# Altium schematic symbol library RF_AM_FM.SchLib: 13 symbols
Pins are listed as number, name and electrical type; pins without a type are passive.

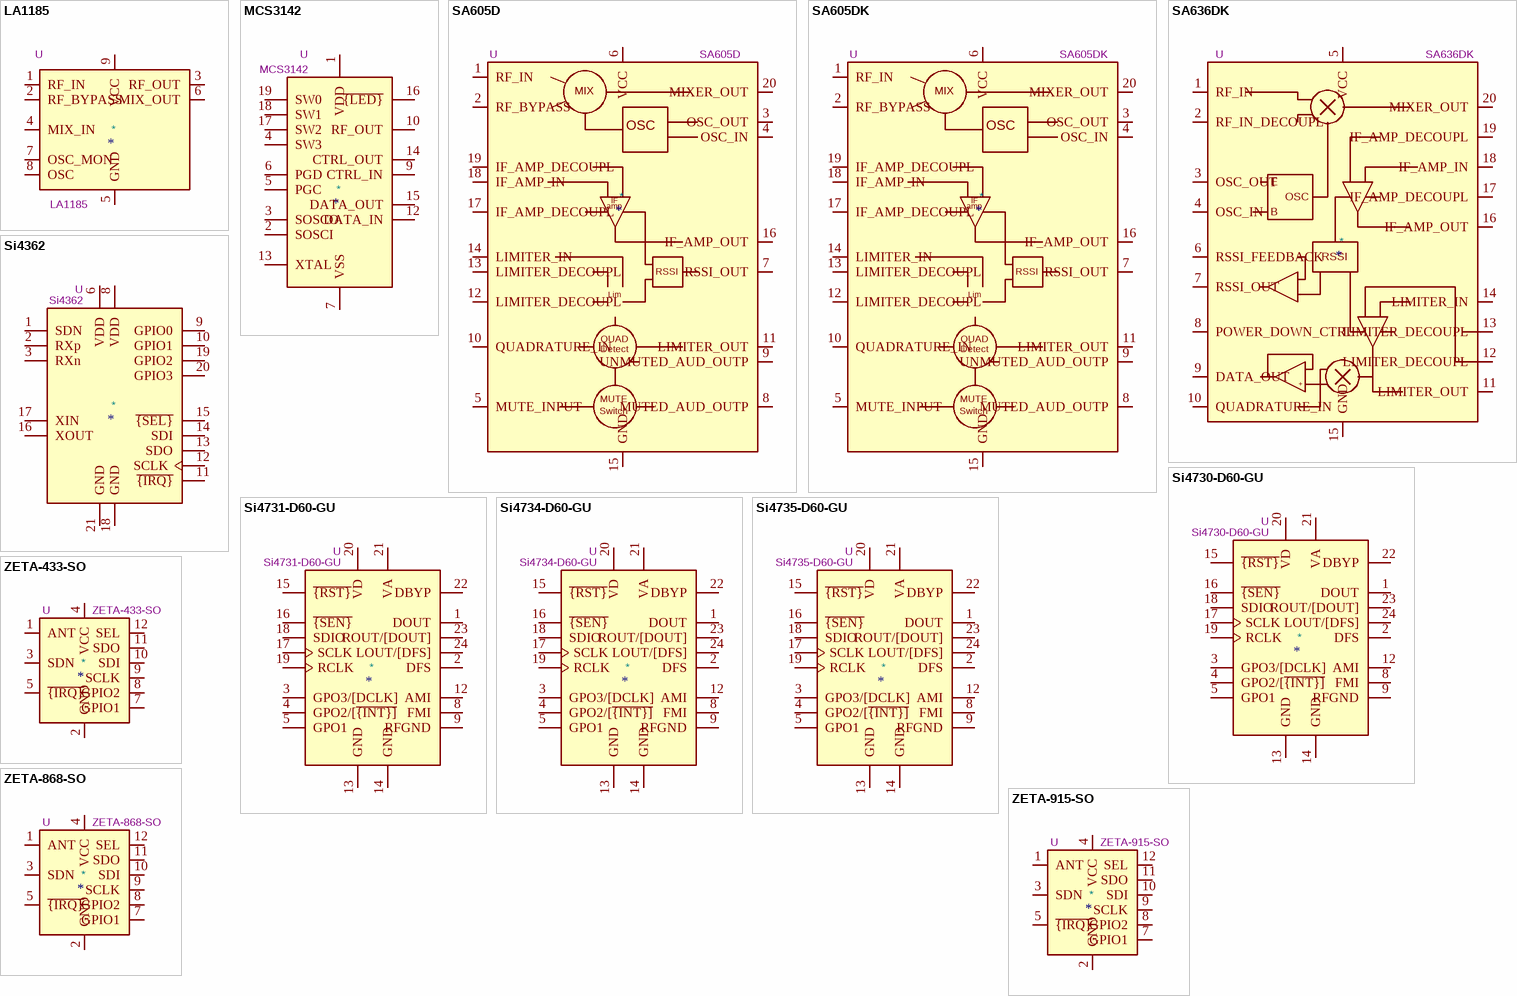
[diagram p0: symbols LA1185 to ZETA-915-SO]

## LA1185
designator *  value LA1185  Reference: U
ki_keywords: FM mixer receiver amplifier; ki_description: FM receiver front-end IC for radio-cassette recorder, music center applications, SIP-9; ki_fp_filters: SIP*22.3x3mm*P2.54mm*; Footprint: Package_SIP:SIP-9_22.3x3mm_P2.54mm; Datasheet: https://www.alldatasheet.com/datasheet-pdf/pdf/39974/SANYO/LA1185.html
pins: 1 RF_IN, 2 RF_BYPASS, 3 RF_OUT, 4 MIX_IN, 5 GND, 6 MIX_OUT, 7 OSC_MON, 8 OSC, 9 VCC

## MCS3142
designator *  value MCS3142  Reference: U
ki_keywords: KEELOQ classic ultimate keyless entry keyfob ISM; ki_description: Microchip KEELOQ classic / ultimate encoder - keyfob IC sending button state, serial and authentiation as PWM/manchester encoded AM/FM signal in ISM bands; ki_fp_filters: TSSOP*4.4x6.5mm?P0.65mm*; Footprint: Package_SO:TSSOP-20_4.4x6.5mm_P0.65mm; Datasheet: http://ww1.microchip.com/downloads/en/DeviceDoc/40001747A.pdf
pins: 1 VDD, 2 SOSCI, 3 SOSCO, 4 SW3, 5 PGC, 6 PGD, 7 VSS, 8 VDD hidden, 9 CTRL_IN, 10 RF_OUT, 11 VSS hidden, 12 DATA_IN, 13 XTAL, 14 CTRL_OUT, 15 DATA_OUT, 16 ~{{LED}}, 17 SW2, 18 SW1, 19 SW0, 20 VSS hidden

## SA605D
designator *  value SA605D  Reference: U
ki_keywords: High performance monolithic low-power FM IF system; ki_description: High performance monolithic low-power FM IF system, SO-20; ki_fp_filters: SO*12.8x7.5mm*P1.27mm*; Footprint: Package_SO:SO-20_12.8x7.5mm_P1.27mm; Datasheet: https://www.nxp.com/docs/en/data-sheet/SA605.pdf
pins: 1 RF_IN, 2 RF_BYPASS, 3 OSC_OUT, 4 OSC_IN, 5 MUTE_INPUT, 6 VCC, 7 RSSI_OUT, 8 MUTED_AUD_OUTP, 9 UNMUTED_AUD_OUTP, 10 QUADRATURE_IN, 11 LIMITER_OUT, 12 LIMITER_DECOUPL, 13 LIMITER_DECOUPL, 14 LIMITER_IN, 15 GND, 16 IF_AMP_OUT, 17 IF_AMP_DECOUPL, 18 IF_AMP_IN, 19 IF_AMP_DECOUPL, 20 MIXER_OUT
text: MIX; OSC; IF; amp; RSSI; Lim; QUAD; Detect; MUTE; Switch

## SA605DK
designator *  value SA605DK  Reference: U
ki_keywords: High performance monolithic low-power FM IF system; ki_description: High performance monolithic low-power FM IF system, SSOP-20; ki_fp_filters: SSOP*4.4x6.5mm*P0.65mm*; Footprint: Package_SO:SSOP-20_4.4x6.5mm_P0.65mm; Datasheet: https://www.nxp.com/docs/en/data-sheet/SA605.pdf
pins: 1 RF_IN, 2 RF_BYPASS, 3 OSC_OUT, 4 OSC_IN, 5 MUTE_INPUT, 6 VCC, 7 RSSI_OUT, 8 MUTED_AUD_OUTP, 9 UNMUTED_AUD_OUTP, 10 QUADRATURE_IN, 11 LIMITER_OUT, 12 LIMITER_DECOUPL, 13 LIMITER_DECOUPL, 14 LIMITER_IN, 15 GND, 16 IF_AMP_OUT, 17 IF_AMP_DECOUPL, 18 IF_AMP_IN, 19 IF_AMP_DECOUPL, 20 MIXER_OUT
text: MIX; OSC; IF; amp; RSSI; Lim; QUAD; Detect; MUTE; Switch

## SA636DK
designator *  value SA636DK  Reference: U
ki_keywords: Low-voltage, monolithic, FM, IF, RSSI; ki_description: Low-voltage, high performance, monolithic FM IF system with high-speed RSSI, SSOP-20; ki_fp_filters: SSOP*4.4x6.5mm*P0.65mm*; Footprint: Package_SO:SSOP-20_4.4x6.5mm_P0.65mm; Datasheet: https://www.nxp.com/docs/en/data-sheet/SA636.pdf
pins: 1 RF_IN, 2 RF_IN_DECOUPL, 3 OSC_OUT, 4 OSC_IN, 5 VCC, 6 RSSI_FEEDBACK, 7 RSSI_OUT, 8 POWER_DOWN_CTRL, 9 DATA_OUT, 10 QUADRATURE_IN, 11 LIMITER_OUT, 12 LIMITER_DECOUPL, 13 LIMITER_DECOUPL, 14 LIMITER_IN, 15 GND, 16 IF_AMP_OUT, 17 IF_AMP_DECOUPL, 18 IF_AMP_IN, 19 IF_AMP_DECOUPL, 20 MIXER_OUT
text: E; OSC; B; RSSI; +

## Si4362
designator *  value Si4362  Reference: U
ki_keywords: radio receiver; ki_description: EZRadioPRO Low Current Receiver; ki_fp_filters: QFN*4x4mm*P0.5mm*; Footprint: Package_DFN_QFN:QFN-20-1EP_4x4mm_P0.5mm_EP2.5x2.5mm; Datasheet: http://www.silabs.com/Support%20Documents/TechnicalDocs/Si4362.pdf
pins: 1 SDN, 2 RXp, 3 RXn, 4 NC hidden, 5 NC hidden, 6 VDD, 7 NC hidden, 8 VDD, 9 GPIO0, 10 GPIO1, 11 ~{{IRQ}}, 12 SCLK, 13 SDO, 14 SDI, 15 ~{{SEL}}, 16 XOUT, 17 XIN, 18 GND, 19 GPIO2, 20 GPIO3, 21 GND

## Si4730-D60-GU
designator *  value Si4730-D60-GU  Reference: U
ki_keywords: Broadcast AM FM Radio Receiver; ki_description: AM/FM Broadcast Radio Receiver; ki_fp_filters: SSOP*3.9x8.7mm*P0.635mm*; Footprint: Package_SO:SSOP-24_3.9x8.7mm_P0.635mm; Datasheet: http://www.silabs.com/Support%20Documents/TechnicalDocs/Si4730-31-34-35-D60.pdf
pins: 1 DOUT, 2 DFS, 3 GPO3/[DCLK], 4 GPO2/[~{{INT}]}, 5 GPO1, 6 NC hidden, 7 NC hidden, 8 FMI, 9 RFGND, 10 NC hidden, 11 NC hidden, 12 AMI, 13 GND, 14 GND, 15 ~{{RST}}, 16 ~{{SEN}}, 17 SCLK, 18 SDIO, 19 RCLK, 20 VD, 21 VA, 22 DBYP, 23 ROUT/[DOUT], 24 LOUT/[DFS]

## Si4731-D60-GU
designator *  value Si4731-D60-GU  Reference: U
ki_keywords: Broadcast AM FM Radio Receiver RDS RBDS; ki_description: AM/FM Broadcast Radio Receiver with RDS/RBDS; ki_fp_filters: SSOP*3.9x8.7mm*P0.635mm*; Footprint: Package_SO:SSOP-24_3.9x8.7mm_P0.635mm; Datasheet: http://www.silabs.com/Support%20Documents/TechnicalDocs/Si4730-31-34-35-D60.pdf
pins: 1 DOUT, 2 DFS, 3 GPO3/[DCLK], 4 GPO2/[~{{INT}]}, 5 GPO1, 6 NC hidden, 7 NC hidden, 8 FMI, 9 RFGND, 10 NC hidden, 11 NC hidden, 12 AMI, 13 GND, 14 GND, 15 ~{{RST}}, 16 ~{{SEN}}, 17 SCLK, 18 SDIO, 19 RCLK, 20 VD, 21 VA, 22 DBYP, 23 ROUT/[DOUT], 24 LOUT/[DFS]

## Si4734-D60-GU
designator *  value Si4734-D60-GU  Reference: U
ki_keywords: Broadcast AM FM SW LW Radio Receiver; ki_description: AM/FM/SW/LW Broadcast Radio Receiver; ki_fp_filters: SSOP*3.9x8.7mm*P0.635mm*; Footprint: Package_SO:SSOP-24_3.9x8.7mm_P0.635mm; Datasheet: http://www.silabs.com/Support%20Documents/TechnicalDocs/Si4730-31-34-35-D60.pdf
pins: 1 DOUT, 2 DFS, 3 GPO3/[DCLK], 4 GPO2/[~{{INT}]}, 5 GPO1, 6 NC hidden, 7 NC hidden, 8 FMI, 9 RFGND, 10 NC hidden, 11 NC hidden, 12 AMI, 13 GND, 14 GND, 15 ~{{RST}}, 16 ~{{SEN}}, 17 SCLK, 18 SDIO, 19 RCLK, 20 VD, 21 VA, 22 DBYP, 23 ROUT/[DOUT], 24 LOUT/[DFS]

## Si4735-D60-GU
designator *  value Si4735-D60-GU  Reference: U
ki_keywords: Broadcast AM FM SW LW Radio Receiver RDS RBDS; ki_description: AM/FM/SW/LW Broadcast Radio Receiver with RDS/RBDS; ki_fp_filters: SSOP*3.9x8.7mm*P0.635mm*; Footprint: Package_SO:SSOP-24_3.9x8.7mm_P0.635mm; Datasheet: http://www.silabs.com/Support%20Documents/TechnicalDocs/Si4730-31-34-35-D60.pdf
pins: 1 DOUT, 2 DFS, 3 GPO3/[DCLK], 4 GPO2/[~{{INT}]}, 5 GPO1, 6 NC hidden, 7 NC hidden, 8 FMI, 9 RFGND, 10 NC hidden, 11 NC hidden, 12 AMI, 13 GND, 14 GND, 15 ~{{RST}}, 16 ~{{SEN}}, 17 SCLK, 18 SDIO, 19 RCLK, 20 VD, 21 VA, 22 DBYP, 23 ROUT/[DOUT], 24 LOUT/[DFS]

## ZETA-433-SO
designator *  value ZETA-433-SO  Reference: U
ki_keywords: RF TRANSCEIVER MODULE; ki_description: FM ZETA TRANSCEIVER MODULE, OPTIMISED FOR 433MHZ; ki_fp_filters: ZETA?433?SO?SMD* ZETA?433?SO?THT*; Datasheet: https://www.rfsolutions.co.uk/downloads/1456219226DS-ZETA.pdf
pins: 1 ANT, 2 GND, 3 SDN, 4 VCC, 5 ~{{IRQ}}, 6 NC hidden, 7 GPIO1, 8 GPIO2, 9 SCLK, 10 SDI, 11 SDO, 12 SEL

## ZETA-868-SO
designator *  value ZETA-868-SO  Reference: U
ki_keywords: RF TRANSCEIVER MODULE; ki_description: FM ZETA TRANSCEIVER MODULE, OPTIMISED FOR 868MHZ; ki_fp_filters: ZETA?433?SO?SMD* ZETA?433?SO?THT*; Datasheet: https://www.rfsolutions.co.uk/downloads/1456219226DS-ZETA.pdf
pins: 1 ANT, 2 GND, 3 SDN, 4 VCC, 5 ~{{IRQ}}, 6 NC hidden, 7 GPIO1, 8 GPIO2, 9 SCLK, 10 SDI, 11 SDO, 12 SEL

## ZETA-915-SO
designator *  value ZETA-915-SO  Reference: U
ki_keywords: RF TRANSCEIVER MODULE; ki_description: FM ZETA TRANSCEIVER MODULE, OPTIMISED FOR 915MHZ; ki_fp_filters: ZETA?433?SO?SMD* ZETA?433?SO?THT*; Datasheet: https://www.rfsolutions.co.uk/downloads/1456219226DS-ZETA.pdf
pins: 1 ANT, 2 GND, 3 SDN, 4 VCC, 5 ~{{IRQ}}, 6 NC hidden, 7 GPIO1, 8 GPIO2, 9 SCLK, 10 SDI, 11 SDO, 12 SEL